# Altium footprint library GPS-lib.PcbLib: 18 footprints (part 2 of 2)
Each footprint in its own frame and in the unit in brackets; x right, y up, seen from the top. Pads: shape width x height; smd on the part's side, far side on the other; paste and mask are expansions set on the pad; w line width, h text height; cw(c..) or ccw(c..) is an arc to the next point about the centre after c.
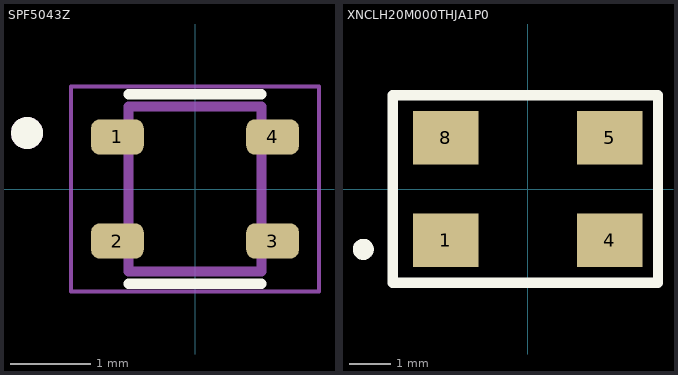
[diagram p1: the footprints below, top view; thin cyan lines are the x and y axes]

## SPF5043Z [mm]
pads (4):
  rrect50% 0.66x0.44 smd: 1(-0.97,0.65) 2(-0.97,-0.65) 3(0.97,-0.65) 4(0.97,0.65)
Top Overlay:
  circle w0.2: c-2.1,0.7 r0.1
  lines w0.127: -0.83,-1.184 0.83,-1.184 ; -0.83,1.184 0.83,1.184
Mechanical 13:
  circle w0.2: c-2.1,0.7 r0.1
  lines w0.127: -0.83,-1.03 0.83,-1.03 0.83,1.03 -0.83,1.03 -0.83,-1.03
Mechanical 15:
  lines w0.05: -1.55,-1.28 -1.55,1.28 1.55,1.28 1.55,-1.28 -1.55,-1.28

## XNCLH20M000THJA1P0 [mm]
pads (4):
  rect 1.6x1.3 smd: 1(-2,-1.25) 4(2,-1.25) 5(2,1.25) 8(-2,1.25)
Top Overlay:
  circle w0.254: c-4.016,-1.473 r0.13
  lines w0.254: -3.302,-2.286 -3.302,2.286 -3.048,2.286 3.175,2.286 3.175,-2.286 -3.302,-2.286